# Altium schematic symbol library Component.SchLib: 20 symbols
Pins are listed as number, name and electrical type; pins without a type are passive.

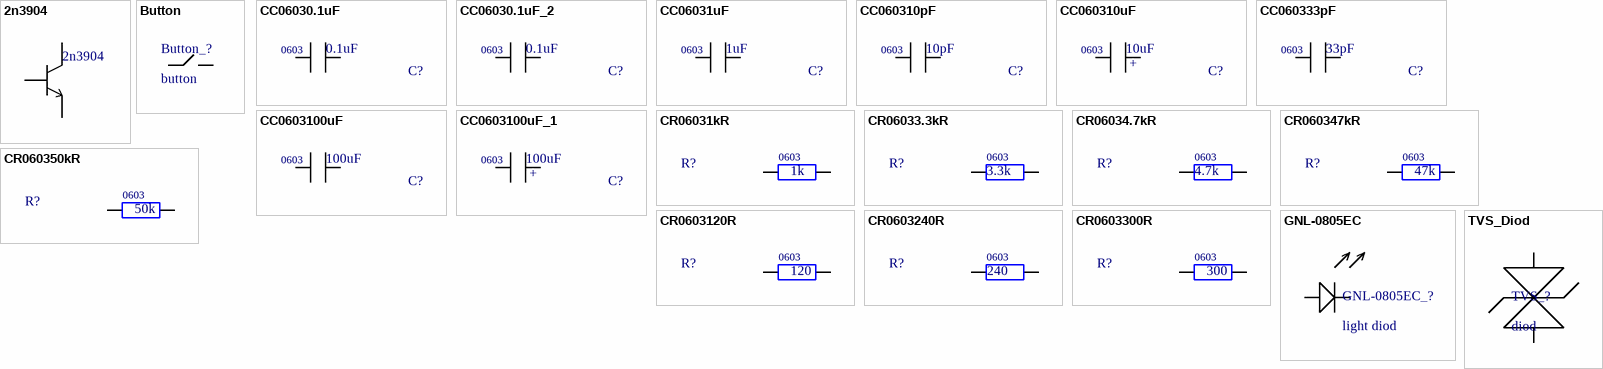
[diagram p0: symbols 2n3904 to TVS_Diod]

## 2n3904
designator 2n3904_?, comment transistor  (value not drawn)
pins: 4, 5, 6

## Button
designator Button_?, comment button
pins: ?1, ?2

## CC06030.1uF
designator C?, comment capacitor  (value not drawn)
CC0603_0.1uF; Value: 0.1uF
pins: 2, 3
text: 0603

## CC06030.1uF_2
designator C?, comment capacitor  (value not drawn)
CC0603_0.1uF; Value: 0.1uF
pins: 2, 3
text: 0603

## CC06031uF
designator C?, comment capacitor  (value not drawn)
CC0603_1uF; Value: 1uF
pins: 2, 3
text: 0603

## CC060310pF
designator C?, comment capacitor  (value not drawn)
CC0603_10pF; Value: 10pF
pins: 2, 3
text: 0603

## CC060310uF
designator C?, comment capacitor  (value not drawn)
CC0603_10uF; Value: 10uF
pins: 2, 3
text: 0603; +

## CC060333pF
designator C?  (value not drawn)
CC0603_33pF; Value: 33pF
pins: 2, 3
text: 0603

## CC0603100uF
designator C?, comment capacitor  (value not drawn)
CC06003_100uF; Value: 100uF
pins: 2, 3
text: 0603

## CC0603100uF_1
designator C?, comment capacitor  (value not drawn)
CC06003_100uF; Value: 100uF
pins: 2, 3
text: 0603; +

## CR06031kR
designator R?, comment Resistor  (value not drawn)
CR0603_1kR; Value: 1k
pins: 0, 1
text: 0603

## CR06033.3kR
designator R?, comment Resistor  (value not drawn)
CR0603_3.3kR
pins: 0, 1
text: 0603; 3.3k

## CR06034.7kR
designator R?, comment Resistor  (value not drawn)
CR0603_4.7kR; Value: 4.7k
pins: 0, 1
text: 0603

## CR060347kR
designator R?, comment Resistor  (value not drawn)
CR0603_47kR; Value: 47k
pins: 0, 1
text: 0603

## CR060350kR
designator R?, comment Resistor  (value not drawn)
CR0603_50kR; Value: 50k
pins: 0, 1
text: 0603

## CR0603120R
designator R?, comment Resistor  (value not drawn)
CR0603_120R; Value: 120
pins: 0, 1
text: 0603

## CR0603240R
designator R?, comment Resistor  (value not drawn)
CR0603_240R; Value: 240
pins: 0, 1
text: 0603

## CR0603300R
designator R?, comment Resistor  (value not drawn)
CR0603_300R; Value: 300
pins: 0, 1
text: 0603

## GNL-0805EC
designator GNL-0805EC_?, comment light diod
pins: ?1, ?2

## TVS_Diod
designator TVS_?, comment diod
TVS_Diod; Value: 5V
pins: ?1, ?2